# EAGLE library part NRF24L01_MODULE (library common_modules)
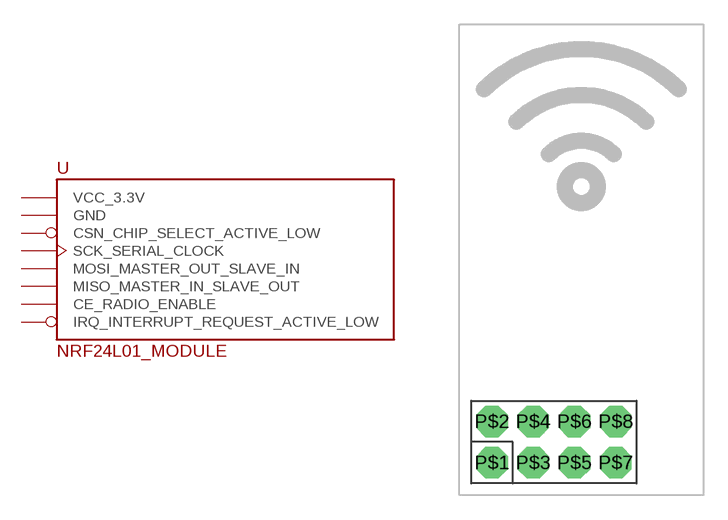
[diagram p0: symbol with the pads of NRF24L01_MODULE; footprint NRF24L01_MODULE]

Designator prefix -

## NRF24L01_MODULE (VALUE: NRF28L01 Module)  [NRF24L01_MODULE]
P$1  GND  sup
P$2  VCC_3.3V  sup
P$3  CE_RADIO_ENABLE  in
P$4  CSN_CHIP_SELECT_ACTIVE_LOW  in
P$5  SCK_SERIAL_CLOCK  in
P$6  MOSI_MASTER_OUT_SLAVE_IN  in
P$7  MISO_MASTER_IN_SLAVE_OUT  out
P$8  IRQ_INTERRUPT_REQUEST_ACTIVE_LOW  out

## Footprint NRF24L01_MODULE (pad centres in mm)
drill 1.2 pad 1.93 octagon: P$1 0,0; P$2 0,2.54; P$3 2.54,0; P$4 2.54,2.54; P$5 5.08,0; P$6 5.08,2.54; P$7 7.62,0; P$8 7.62,2.54